# Altium schematic symbol library BM13B-NSHSS-TBT.SchLib: 1 symbol
Pins are listed as number, name and electrical type; pins without a type are passive.

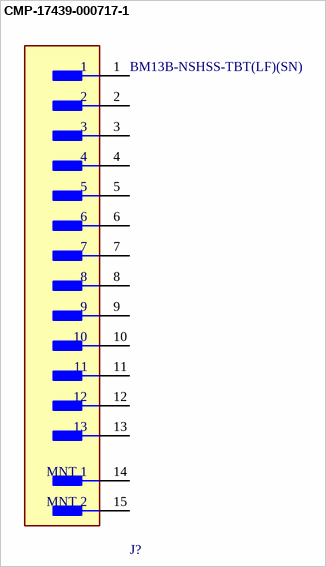
[diagram p0: symbol CMP-17439-000717-1]

## CMP-17439-000717-1
designator J?, comment BM13B-NSHSS-TBT(LF)(SN)
Connector Header Surface Mount 13 position 0.039" (1.00mm)
footprint FP-BM13B-NSHSS-TBT_LF_SN-MFG
pins: 1, 2, 3, 4, 5, 6, 7, 8, 9, 10, 11, 12, 13, 14 MNT 1, 15 MNT 2